# Altium footprint library QFN.PcbLib: 5 footprints
Each footprint in its own frame and in the unit in brackets; x right, y up, seen from the top. Pads: shape width x height; smd on the part's side, far side on the other; paste and mask are expansions set on the pad; w line width, h text height; cw(c..) or ccw(c..) is an arc to the next point about the centre after c.
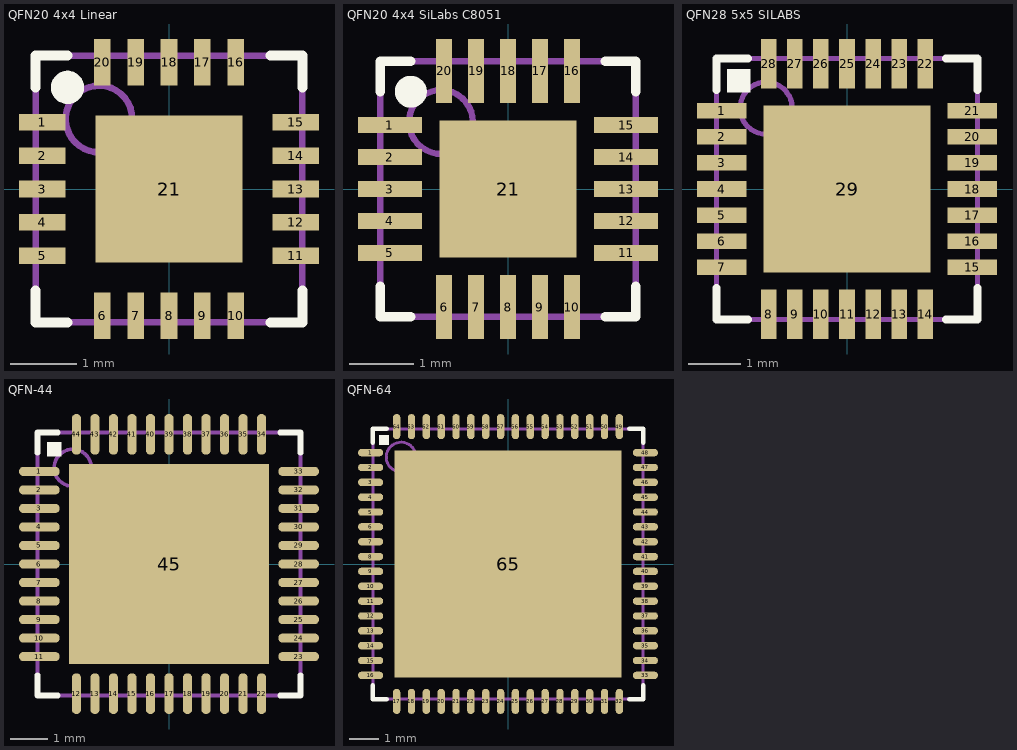
[diagram p0: the footprints below, top view; thin cyan lines are the x and y axes]

## QFN20 4x4 Linear [mm]
pads (21):
  rect 0.7x0.25 smd mask+0.025: 1(-1.9,1) 2(-1.9,0.5) 3(-1.9,0) 4(-1.9,-0.5) 5(-1.9,-1) 11(1.9,-1) 12(1.9,-0.5) 13(1.9,0) 14(1.9,0.5) 15(1.9,1)
  rect 0.25x0.7 smd mask+0.025: 6(-1,-1.9) 7(-0.5,-1.9) 8(0,-1.9) 9(0.5,-1.9) 10(1,-1.9) 16(1,1.9) 17(0.5,1.9) 18(0,1.9) 19(-0.5,1.9) 20(-1,1.9)
  rect 2.2x2.2 smd paste-1000 mask+0.025: 21(0,0)
Top Overlay:
  circle w0.25: c-1.522,1.524 r0.125
  lines w0.152: -2,-1.525 -2,-2 -1.525,-2 ; -2,1.525 -2,2 -1.525,2 ; 1.525,-2 2,-2 2,-1.525 ; 1.525,2 2,2 2,1.525
Top Paste:
  rectangle: -0.8,0.216 -0.2,0.816
  rectangle: 0.2,-0.8 0.8,-0.2
  rectangle: 0.2,0.2 0.8,0.8
  rectangle: -0.8,-0.8 -0.2,-0.2
Mechanical 13:
  circle w0.1: c-1.05,1.05 r0.5
  lines w0.1: -2,-2 2,-2 2,2 -2,2 -2,-2
3D body: height 1, standoff 0.05, extent -2,-2 2,2

## QFN20 4x4 SiLabs C8051 [mm] "QFN-20 Based on Silicon Labs C8051F33x"
height 1
pads (21):
  rect 1x0.25 smd mask+0.051: 1(-1.85,1) 2(-1.85,0.5) 3(-1.85,0) 4(-1.85,-0.5) 5(-1.85,-1) 11(1.85,-1) 12(1.85,-0.5) 13(1.85,0) 14(1.85,0.5) 15(1.85,1)
  rect 0.25x1 smd mask+0.051: 6(-1,-1.85) 7(-0.5,-1.85) 8(0,-1.85) 9(0.5,-1.85) 10(1,-1.85) 16(1,1.85) 17(0.5,1.85) 18(0,1.85) 19(-0.5,1.85) 20(-1,1.85)
  rect 2.15x2.15 smd paste-100 mask+0.051: 21(0,0)
Top Overlay:
  circle w0.25: c-1.522,1.524 r0.125
  lines w0.152: -2,-1.525 -2,-2 -1.525,-2 ; -2,1.525 -2,2 -1.525,2 ; 1.525,-2 2,-2 2,-1.525 ; 1.525,2 2,2 2,1.525
Top Paste:
  rectangle: -0.8,-0.8 -0.2,-0.2
  rectangle: 0.2,0.2 0.8,0.8
  rectangle: 0.2,-0.8 0.8,-0.2
  rectangle: -0.8,0.216 -0.2,0.816
Mechanical 13:
  circle w0.1: c-1.05,1.05 r0.5
  lines w0.1: -2,-2 2,-2 2,2 -2,2 -2,-2
3D body: height 1, standoff 0.05, extent -2,-2 2,2

## QFN28 5x5 SILABS [mm] "QFN-28 5mm x 5mm Body SiLabs CP2102"
height 1
pads (29):
  rect 0.95x0.3 smd paste-0.03 mask+0.012: 1(-2.4,1.5) 2(-2.4,1) 3(-2.4,0.5) 4(-2.4,0) 5(-2.4,-0.5) 6(-2.4,-1) 7(-2.4,-1.5) 15(2.4,-1.5) 16(2.4,-1) 17(2.4,-0.5) 18(2.4,0) 19(2.4,0.5) 20(2.4,1) 21(2.4,1.5)
  rect 0.3x0.95 smd paste-0.03 mask+0.012: 8(-1.5,-2.4) 9(-1,-2.4) 10(-0.5,-2.4) 11(0,-2.4) 12(0.5,-2.4) 13(1,-2.4) 14(1.5,-2.4) 22(1.5,2.4) 23(1,2.4) 24(0.5,2.4) 25(0,2.4) 26(-0.5,2.4) 27(-1,2.4) 28(-1.5,2.4)
  rect 3.2x3.2 smd paste-10 mask+0.1: 29(0,0)
Top Overlay:
  rectangle: -2.3,1.852 -1.848,2.3
  lines w0.15: -2.5,-1.9 -2.5,-2.5 -1.9,-2.5 ; -2.5,1.9 -2.5,2.5 -1.9,2.5 ; 1.9,-2.5 2.5,-2.5 2.5,-1.9 ; 1.9,2.5 2.5,2.5 2.5,1.9
Top Paste:
  rectangle: -1.27,-1.298 -0.254,-0.254
  rectangle: 0.254,-1.298 1.27,-0.254
  rectangle: 0.254,0.226 1.27,1.27
  rectangle: -1.27,0.226 -0.254,1.27
Mechanical 13:
  circle w0.1: c-1.55,1.55 r0.5
  lines w0.1: -2.5,-2.5 2.5,-2.5 2.5,2.5 -2.5,2.5 -2.5,-2.5
3D body: height 1, standoff 0.05, extent -2.5,-2.5 2.5,2.5

## QFN-44 [mm] "VQFN 7x7 ATMEL, 44-Leads, Body 7x7mm"
height 1
pads (45):
  oval 1.1x0.25 smd paste-0.02 mask+0.02: 1(-3.5,2.5) 2(-3.5,2) 3(-3.5,1.5) 4(-3.5,1) 5(-3.5,0.5) 6(-3.5,0) 7(-3.5,-0.5) 8(-3.5,-1) 9(-3.5,-1.5) 10(-3.5,-2) 11(-3.5,-2.5) 23(3.5,-2.5) 24(3.5,-2) 25(3.5,-1.5) 26(3.5,-1) 27(3.5,-0.5) 28(3.5,0) 29(3.5,0.5) 30(3.5,1) 31(3.5,1.5) 32(3.5,2) 33(3.5,2.5)
  oval 0.25x1.1 smd paste-0.02 mask+0.02: 12(-2.5,-3.5) 13(-2,-3.5) 14(-1.5,-3.5) 15(-1,-3.5) 16(-0.5,-3.5) 17(0,-3.5) 18(0.5,-3.5) 19(1,-3.5) 20(1.5,-3.5) 21(2,-3.5) 22(2.5,-3.5) 34(2.5,3.5) 35(2,3.5) 36(1.5,3.5) 37(1,3.5) 38(0.5,3.5) 39(0,3.5) 40(-0.5,3.5) 41(-1,3.5) 42(-1.5,3.5) 43(-2,3.5) 44(-2.5,3.5)
  rect 5.4x5.4 smd paste-5 mask+0.051: 45(0,0)
Top Overlay:
  rectangle: -3.3,2.9 -2.9,3.3
  lines w0.15: -3.55,-3.001 -3.55,-3.55 -3.001,-3.55 ; -3.55,3.001 -3.55,3.55 -3.001,3.55 ; 3.001,-3.55 3.55,-3.55 3.55,-3.001 ; 3.001,3.55 3.55,3.55 3.55,3.001
Top Paste:
  rectangle: 1.143,-0.635 2.413,0.635
  rectangle: 1.143,1.143 2.413,2.413
  rectangle: -2.413,1.143 -1.143,2.413
  rectangle: 1.143,-2.413 2.413,-1.143
  rectangle: -0.635,1.143 0.635,2.413
  rectangle: -0.635,-0.635 0.635,0.635
  rectangle: -0.635,-2.413 0.635,-1.143
  rectangle: -2.413,-2.413 -1.143,-1.143
  rectangle: -2.413,-0.635 -1.143,0.635
Mechanical 13:
  circle w0.1: c-2.6,2.6 r0.5
  lines w0.1: -3.55,-3.55 -3.55,3.55 3.55,3.55 3.55,-3.55 -3.55,-3.55
3D body: height 1, standoff 0.02, extent -3.55,-3.55 3.55,3.55

## QFN-64 [mm] "64M2, 64-pad, 9 x 9 x 1.0 mm Body, Lead Pitch 0.50mm 7.65mm Exposed Pad"
height 1
pads (65):
  oval 0.85x0.25 smd paste-0.02 mask+0.02: 1(-4.625,3.75) 2(-4.625,3.25) 3(-4.625,2.75) 4(-4.625,2.25) 5(-4.625,1.75) 6(-4.625,1.25) 7(-4.625,0.75) 8(-4.625,0.25) 9(-4.625,-0.25) 10(-4.625,-0.75) 11(-4.625,-1.25) 12(-4.625,-1.75) 13(-4.625,-2.25) 14(-4.625,-2.75) 15(-4.625,-3.25) 16(-4.625,-3.75) 33(4.625,-3.75) 34(4.625,-3.25) 35(4.625,-2.75) 36(4.625,-2.25) 37(4.625,-1.75) 38(4.625,-1.25) 39(4.625,-0.75) 40(4.625,-0.25) 41(4.625,0.25) 42(4.625,0.75) 43(4.625,1.25) 44(4.625,1.75) 45(4.625,2.25) 46(4.625,2.75) 47(4.625,3.25) 48(4.625,3.75)
  oval 0.25x0.85 smd paste-0.02 mask+0.02: 17(-3.75,-4.625) 18(-3.25,-4.625) 19(-2.75,-4.625) 20(-2.25,-4.625) 21(-1.75,-4.625) 22(-1.25,-4.625) 23(-0.75,-4.625) 24(-0.25,-4.625) 25(0.25,-4.625) 26(0.75,-4.625) 27(1.25,-4.625) 28(1.75,-4.625) 29(2.25,-4.625) 30(2.75,-4.625) 31(3.25,-4.625) 32(3.75,-4.625) 49(3.75,4.625) 50(3.25,4.625) 51(2.75,4.625) 52(2.25,4.625) 53(1.75,4.625) 54(1.25,4.625) 55(0.75,4.625) 56(0.25,4.625) 57(-0.25,4.625) 58(-0.75,4.625) 59(-1.25,4.625) 60(-1.75,4.625) 61(-2.25,4.625) 62(-2.75,4.625) 63(-3.25,4.625) 64(-3.75,4.625)
  rect 7.65x7.65 smd paste-10 mask+0.051: 65(0,0)
Top Overlay:
  rectangle: -4.35,4 -4,4.35
  lines w0.15: -4.55,-4.075 -4.55,-4.55 -4.075,-4.55 ; -4.55,4.075 -4.55,4.55 -4.075,4.55 ; 4.075,-4.55 4.55,-4.55 4.55,-4.075 ; 4.075,4.55 4.55,4.55 4.55,4.075
Top Paste:
  rectangle: -3.2,1.5 -1.5,3.2
  rectangle: -3.2,-0.85 -1.5,0.85
  rectangle: 1.5,1.5 3.2,3.2
  rectangle: 1.5,-0.85 3.2,0.85
  rectangle: -0.85,-0.85 0.85,0.85
  rectangle: -0.85,1.5 0.85,3.2
  rectangle: -3.2,-3.2 -1.5,-1.5
  rectangle: -0.85,-3.2 0.85,-1.5
  rectangle: 1.5,-3.2 3.2,-1.5
Mechanical 13:
  circle w0.1: c-3.6,3.6 r0.5
  lines w0.1: -4.55,-4.55 -4.55,4.55 4.55,4.55 4.55,-4.55 -4.55,-4.55
3D body: height 1, standoff 0.02, extent -4.55,-4.55 4.55,4.55